# EAGLE library part LD-7-SEGMENT-DISPLAY-* (library elpp-tht-v1.2)
Display, LED, 7-segment, single digit
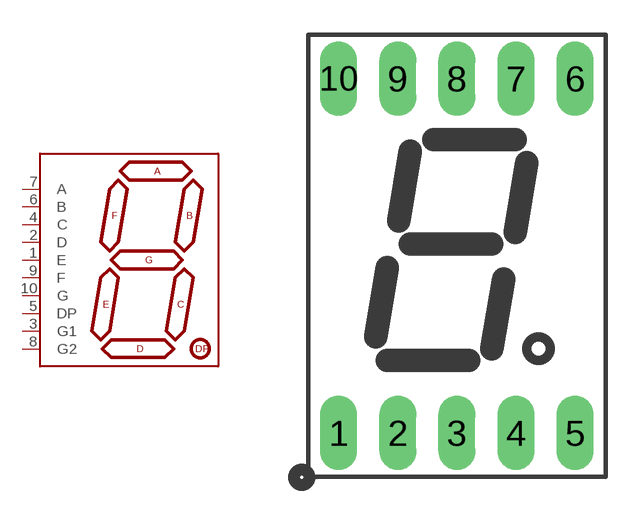
[diagram p4: symbol with the pads of ELPP-7-SEGMENT-DISPLAY; footprint ELPP-7-SEGMENT-DISPLAY]

Designator prefix LD

## LD-7-SEGMENT-DISPLAY-CA (FARNELL: 2314214; RS: 2358777), LD-7-SEGMENT-DISPLAY-CC (FARNELL: 2314218; RS: 2358783)  [ELPP-7-SEGMENT-DISPLAY]
1  E
2  D
3  G1
4  C
5  DP
6  B
7  A
8  G2
9  F
10  G

## Footprint ELPP-7-SEGMENT-DISPLAY (pad centres in mm)
LED display, 7 segment, single digit, 19 x 12.7 mm (0.5").
drill 1 pad 1.6 long: 1 -5.08,-7.62; 2 -2.54,-7.62; 3 0,-7.62; 4 2.54,-7.62; 5 5.08,-7.62; 6 5.08,7.62; 7 2.54,7.62; 8 0,7.62; 9 -2.54,7.62; 10 -5.08,7.62